# EAGLE library part RSO-4812SZ (library my-library)
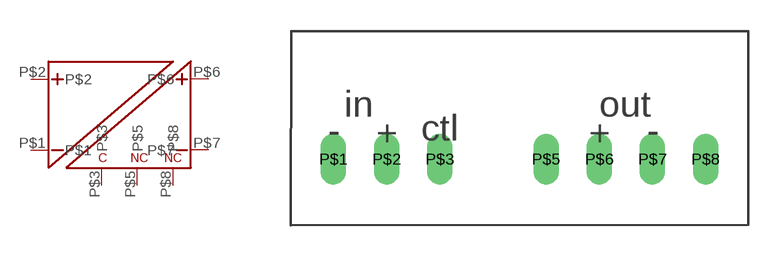
[diagram p1: symbol with the pads of DC2DC_SIP8; footprint DC2DC_SIP8]

Designator prefix -

## RSO-4812SZ  [DC2DC_SIP8]
P$1  P$1
P$2  P$2
P$3  P$3
P$5  P$5
P$6  P$6
P$7  P$7
P$8  P$8

## Footprint DC2DC_SIP8 (pad centres in mm)
drill 0.7 long: P$1 0,0; P$2 2.54,0; P$3 5.08,0; P$5 10.16,0; P$6 12.7,0; P$7 15.24,0; P$8 17.78,0